# EAGLE library part HEADER-6P-2R-DIP-2_54MM (library SamacSys_Parts)
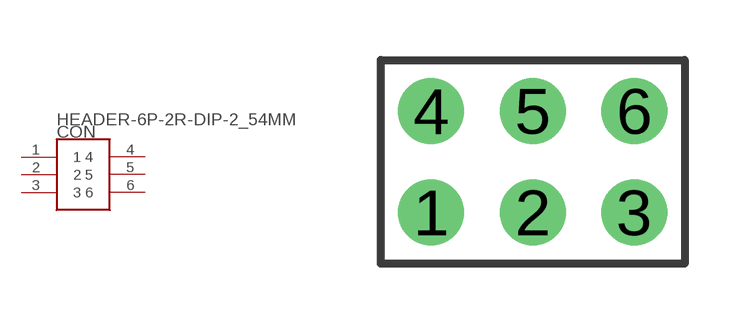
[diagram p4: symbol with the pads of HEADER-6P-2R-DIP-2_54MM; footprint HEADER-6P-2R-DIP-2_54MM]

Designator prefix CON

## HEADER-6P-2R-DIP-2_54MM  [HEADER-6P-2R-DIP-2_54MM]
1  1
2  2
3  3
4  4
5  5
6  6

## Footprint HEADER-6P-2R-DIP-2_54MM (pad centres in mm)
825433-5
drill 1.1 pad 1.65: 1 -2.54,-1.27; 2 0,-1.27; 3 2.54,-1.27; 4 -2.54,1.27; 5 0,1.27; 6 2.54,1.27